# EAGLE library part TPS6209 (library thanics_robotics)
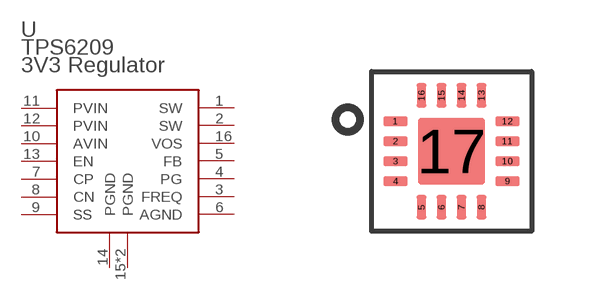
[diagram p14: symbol with the pads of VQFN16; footprint VQFN16]

Designator prefix -

## TPS6209  [VQFN16]
1  SW
2  SW
3  FREQ
4  PG
5  FB
6  AGND
7  CP
8  CN
9  SS
10  AVIN
11  PVIN
12  PVIN
13  EN
14  PGND
15  PGND
16  VOS
17  PGND

## Footprint VQFN16 (pad centres in mm)
smd 0.6 x 0.24: 1 -1.4,0.75; 2 -1.4,0.25; 3 -1.4,-0.25; 4 -1.4,-0.75; 9 1.4,-0.75; 10 1.4,-0.25; 11 1.4,0.25; 12 1.4,0.75
smd 0.24 x 0.6: 5 -0.75,-1.4; 6 -0.25,-1.4; 7 0.25,-1.4; 8 0.75,-1.4; 13 0.75,1.4; 14 0.25,1.4; 15 -0.25,1.4; 16 -0.75,1.4
smd 1.68 x 1.68: 17 0,0